# Altium footprint library hhc_ad4_YZB.PcbLib: 55 footprints (part 3 of 4)
Each footprint in its own frame and in the unit in brackets; x right, y up, seen from the top. Pads: shape width x height; smd on the part's side, far side on the other; paste and mask are expansions set on the pad; w line width, h text height; cw(c..) or ccw(c..) is an arc to the next point about the centre after c.
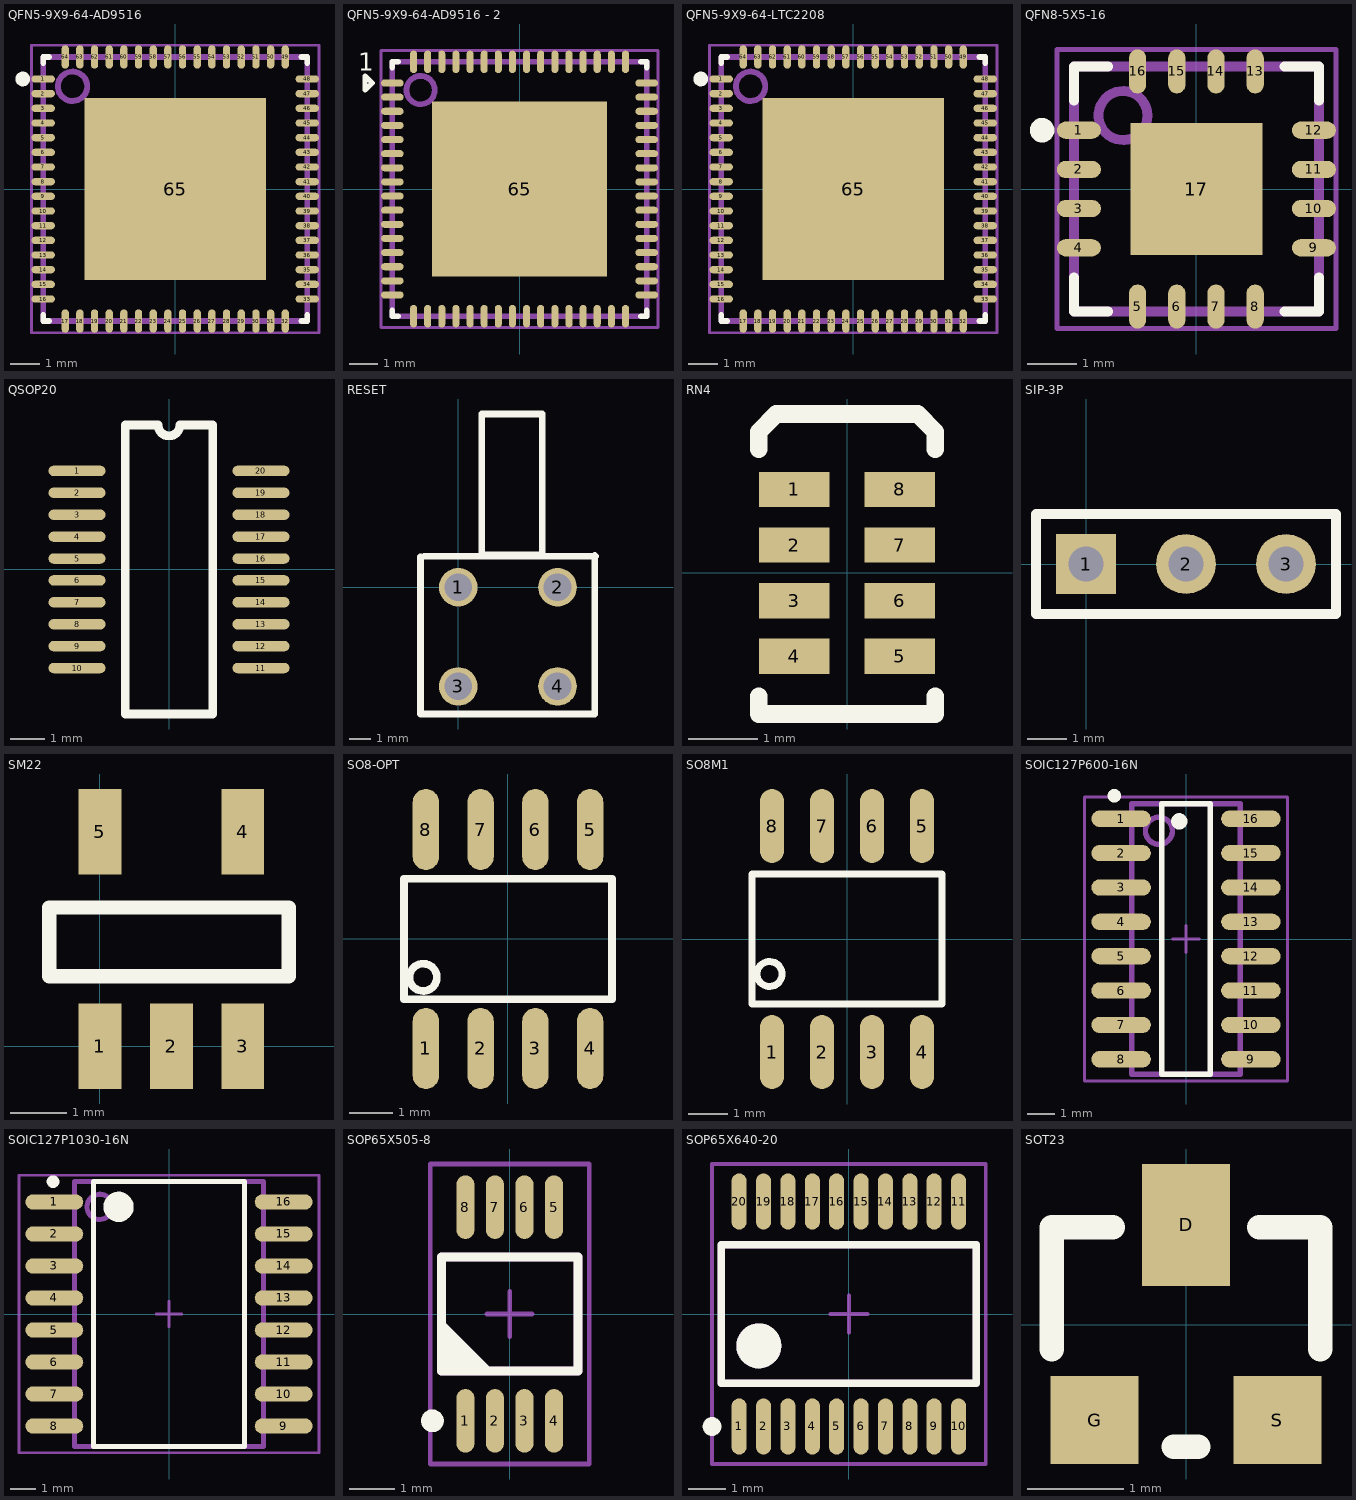
[diagram p2: the footprints below, top view; thin cyan lines are the x and y axes]

## QFN5-9X9-64-AD9516 [mm]
pads (65):
  oval 0.8x0.25 smd: 1(-4.5,3.75) 2(-4.5,3.25) 3(-4.5,2.75) 4(-4.5,2.25) 5(-4.5,1.75) 6(-4.5,1.25) 7(-4.5,0.75) 8(-4.5,0.25) 9(-4.5,-0.25) 10(-4.5,-0.75) 11(-4.5,-1.25) 12(-4.5,-1.75) 13(-4.5,-2.25) 14(-4.5,-2.75) 15(-4.5,-3.25) 16(-4.5,-3.75) 33(4.5,-3.75) 34(4.5,-3.25) 35(4.5,-2.75) 36(4.5,-2.25) 37(4.5,-1.75) 38(4.5,-1.25) 39(4.5,-0.75) 40(4.5,-0.25) 41(4.5,0.25) 42(4.5,0.75) 43(4.5,1.25) 44(4.5,1.75) 45(4.5,2.25) 46(4.5,2.75) 47(4.5,3.25) 48(4.5,3.75)
  oval 0.25x0.8 smd: 17(-3.75,-4.5) 18(-3.25,-4.5) 19(-2.75,-4.5) 20(-2.25,-4.5) 21(-1.75,-4.5) 22(-1.25,-4.5) 23(-0.75,-4.5) 24(-0.25,-4.5) 25(0.25,-4.5) 26(0.75,-4.5) 27(1.25,-4.5) 28(1.75,-4.5) 29(2.25,-4.5) 30(2.75,-4.5) 31(3.25,-4.5) 32(3.75,-4.5) 49(3.75,4.5) 50(3.25,4.5) 51(2.75,4.5) 52(2.25,4.5) 53(1.75,4.5) 54(1.25,4.5) 55(0.75,4.5) 56(0.25,4.5) 57(-0.25,4.5) 58(-0.75,4.5) 59(-1.25,4.5) 60(-1.75,4.5) 61(-2.25,4.5) 62(-2.75,4.5) 63(-3.25,4.5) 64(-3.75,4.5)
  rect 6.2x6.2 smd: 65(0,0)
Top Overlay:
  circle w0.25: c-5.2,3.75 r0.125
  lines w0.2: -4.5,-4.3 -4.5,-4.5 -4.3,-4.5 ; -4.5,4.3 -4.5,4.5 -4.3,4.5 ; 4.3,-4.5 4.5,-4.5 4.5,-4.3 ; 4.3,4.5 4.5,4.5 4.5,4.3
Top Paste:
  region: -0.106,0.068 -0.12,0.036 -3.7,1.117 -3.7,2.407
  region: -0.035,0.12 -0.068,0.104 -2.428,3.7 -1.139,3.7
  region: 0.036,0.12 0.069,0.104 2.429,3.7 1.067,3.7
  region: 0.106,0.067 0.12,0.035 3.7,1.117 3.7,2.336
  region: 0.106,-0.068 0.12,-0.036 3.7,-1.117 3.7,-2.407
  region: 0.035,-0.12 0.068,-0.104 2.514,-3.7 1.054,-3.7
  region: -0.036,-0.12 -0.069,-0.104 -2.453,-3.7 -1.117,-3.7
  region: -0.106,-0.067 -0.12,-0.035 -3.7,-1.117 -3.7,-2.336
Mechanical 1:
  circle w0.2: c-3.5,3.5 r0.5
  lines w0.2: -4.5,-4.5 4.5,-4.5 4.5,4.5 -4.5,4.5 -4.5,-4.5
  text "U67" at -1.224,-0.5 h1
Mechanical 8:
  lines w0.1: -0.5,0 0.5,0 ; 0,-0.5 0,0.5 ; -4.9,-4.9 4.9,-4.9 4.9,4.9 -4.9,4.9 -4.9,-4.9

## QFN5-9X9-64-AD9516 - 2 [mm]
pads (65):
  oval 0.8x0.25 smd: 1(-4.5,3.75) 2(-4.5,3.25) 3(-4.5,2.75) 4(-4.5,2.25) 5(-4.5,1.75) 6(-4.5,1.25) 7(-4.5,0.75) 8(-4.5,0.25) 9(-4.5,-0.25) 10(-4.5,-0.75) 11(-4.5,-1.25) 12(-4.5,-1.75) 13(-4.5,-2.25) 14(-4.5,-2.75) 15(-4.5,-3.25) 16(-4.5,-3.75) 33(4.5,-3.75) 34(4.5,-3.25) 35(4.5,-2.75) 36(4.5,-2.25) 37(4.5,-1.75) 38(4.5,-1.25) 39(4.5,-0.75) 40(4.5,-0.25) 41(4.5,0.25) 42(4.5,0.75) 43(4.5,1.25) 44(4.5,1.75) 45(4.5,2.25) 46(4.5,2.75) 47(4.5,3.25) 48(4.5,3.75)
  oval 0.25x0.8 smd: 17(-3.75,-4.5) 18(-3.25,-4.5) 19(-2.75,-4.5) 20(-2.25,-4.5) 21(-1.75,-4.5) 22(-1.25,-4.5) 23(-0.75,-4.5) 24(-0.25,-4.5) 25(0.25,-4.5) 26(0.75,-4.5) 27(1.25,-4.5) 28(1.75,-4.5) 29(2.25,-4.5) 30(2.75,-4.5) 31(3.25,-4.5) 32(3.75,-4.5) 49(3.75,4.5) 50(3.25,4.5) 51(2.75,4.5) 52(2.25,4.5) 53(1.75,4.5) 54(1.25,4.5) 55(0.75,4.5) 56(0.25,4.5) 57(-0.25,4.5) 58(-0.75,4.5) 59(-1.25,4.5) 60(-1.75,4.5) 61(-2.25,4.5) 62(-2.75,4.5) 63(-3.25,4.5) 64(-3.75,4.5)
  rect 6.2x6.2 smd: 65(0,0)
Top Overlay:
  lines w0.178: -5.461,3.496 -5.207,3.75 -5.461,4.004 -5.461,3.496
  lines w0.2: -4.5,-4.3 -4.5,-4.5 -4.3,-4.5 ; -4.5,4.3 -4.5,4.5 -4.3,4.5 ; 4.3,-4.5 4.5,-4.5 4.5,-4.3 ; 4.3,4.5 4.5,4.5 4.5,4.3
  text "1" at -5.715,4.191 h0.64
Top Paste:
  region: -0.106,-0.067 -0.12,-0.035 -3.7,-1.117 -3.7,-2.336
  region: -0.036,-0.12 -0.069,-0.104 -2.453,-3.7 -1.117,-3.7
  region: 0.035,-0.12 0.068,-0.104 2.514,-3.7 1.054,-3.7
  region: 0.106,-0.068 0.12,-0.036 3.7,-1.117 3.7,-2.407
  region: 0.106,0.067 0.12,0.035 3.7,1.117 3.7,2.336
  region: 0.036,0.12 0.069,0.104 2.429,3.7 1.067,3.7
  region: -0.035,0.12 -0.068,0.104 -2.428,3.7 -1.139,3.7
  region: -0.106,0.068 -0.12,0.036 -3.7,1.117 -3.7,2.407
Mechanical 1:
  circle w0.2: c-3.5,3.5 r0.5
  lines w0.2: -4.5,-4.5 -4.5,4.5 4.5,4.5 4.5,-4.5 -4.5,-4.5
  text "U67" at -1.224,-0.5 h1
Mechanical 8:
  lines w0.1: -0.5,0 0.5,0 ; 0,-0.5 0,0.5 ; -4.9,-4.9 -4.9,4.9 4.9,4.9 4.9,-4.9 -4.9,-4.9

## QFN5-9X9-64-LTC2208 [mm]
pads (65):
  oval 0.8x0.25 smd: 1(-4.5,3.75) 2(-4.5,3.25) 3(-4.5,2.75) 4(-4.5,2.25) 5(-4.5,1.75) 6(-4.5,1.25) 7(-4.5,0.75) 8(-4.5,0.25) 9(-4.5,-0.25) 10(-4.5,-0.75) 11(-4.5,-1.25) 12(-4.5,-1.75) 13(-4.5,-2.25) 14(-4.5,-2.75) 15(-4.5,-3.25) 16(-4.5,-3.75) 33(4.5,-3.75) 34(4.5,-3.25) 35(4.5,-2.75) 36(4.5,-2.25) 37(4.5,-1.75) 38(4.5,-1.25) 39(4.5,-0.75) 40(4.5,-0.25) 41(4.5,0.25) 42(4.5,0.75) 43(4.5,1.25) 44(4.5,1.75) 45(4.5,2.25) 46(4.5,2.75) 47(4.5,3.25) 48(4.5,3.75)
  oval 0.25x0.8 smd: 17(-3.75,-4.5) 18(-3.25,-4.5) 19(-2.75,-4.5) 20(-2.25,-4.5) 21(-1.75,-4.5) 22(-1.25,-4.5) 23(-0.75,-4.5) 24(-0.25,-4.5) 25(0.25,-4.5) 26(0.75,-4.5) 27(1.25,-4.5) 28(1.75,-4.5) 29(2.25,-4.5) 30(2.75,-4.5) 31(3.25,-4.5) 32(3.75,-4.5) 49(3.75,4.5) 50(3.25,4.5) 51(2.75,4.5) 52(2.25,4.5) 53(1.75,4.5) 54(1.25,4.5) 55(0.75,4.5) 56(0.25,4.5) 57(-0.25,4.5) 58(-0.75,4.5) 59(-1.25,4.5) 60(-1.75,4.5) 61(-2.25,4.5) 62(-2.75,4.5) 63(-3.25,4.5) 64(-3.75,4.5)
  rect 6.2x6.2 smd: 65(0,0)
Top Overlay:
  circle w0.25: c-5.2,3.75 r0.125
  lines w0.2: -4.5,-4.3 -4.5,-4.5 -4.3,-4.5 ; -4.5,4.3 -4.5,4.5 -4.3,4.5 ; 4.3,-4.5 4.5,-4.5 4.5,-4.3 ; 4.3,4.5 4.5,4.5 4.5,4.3
Top Paste:
  region: -0.106,0.068 -0.12,0.036 -3.7,1.117 -3.7,2.407
  region: -0.035,0.12 -0.068,0.104 -2.428,3.7 -1.139,3.7
  region: 0.036,0.12 0.069,0.104 2.429,3.7 1.067,3.7
  region: 0.106,0.067 0.12,0.035 3.7,1.117 3.7,2.336
  region: 0.106,-0.068 0.12,-0.036 3.7,-1.117 3.7,-2.407
  region: 0.035,-0.12 0.068,-0.104 2.514,-3.7 1.054,-3.7
  region: -0.036,-0.12 -0.069,-0.104 -2.453,-3.7 -1.117,-3.7
  region: -0.106,-0.067 -0.12,-0.035 -3.7,-1.117 -3.7,-2.336
Mechanical 1:
  circle w0.2: c-3.5,3.5 r0.5
  lines w0.2: -4.5,-4.5 4.5,-4.5 4.5,4.5 -4.5,4.5 -4.5,-4.5
  text "U20" at -1.25,-0.5 h1
Mechanical 8:
  lines w0.1: -0.5,0 0.5,0 ; 0,-0.5 0,0.5 ; -4.9,-4.9 4.9,-4.9 4.9,4.9 -4.9,4.9 -4.9,-4.9

## QFN8-5X5-16 [mm]
pads (17):
  oval 0.9x0.35 smd paste-0.1 mask-0.1: 1(-2.4,1.2) 2(-2.4,0.4) 3(-2.4,-0.4) 4(-2.4,-1.2) 9(2.4,-1.2) 10(2.4,-0.4) 11(2.4,0.4) 12(2.4,1.2)
  oval 0.35x0.9 smd paste-0.1 mask-0.1: 5(-1.2,-2.4) 6(-0.4,-2.4) 7(0.4,-2.4) 8(1.2,-2.4) 13(1.2,2.4) 14(0.4,2.4) 15(-0.4,2.4) 16(-1.2,2.4)
  rect 2.7x2.7 smd: 17(0,0)
Top Overlay:
  circle w0.25: c-3.15,1.2 r0.125
  lines w0.2: -2.5,-1.8 -2.5,-2.5 -1.8,-2.5 ; -2.5,1.8 -2.5,2.5 -1.8,2.5 ; 1.8,-2.5 2.5,-2.5 2.5,-1.8 ; 1.8,2.5 2.5,2.5 2.5,1.8
Top Paste:
  region: 0.068,0.106 0.036,0.12 0.347,1.15 0.748,1.15
  region: 0.12,0.035 0.104,0.068 1.15,0.78 1.15,0.328
  region: 0.12,-0.036 0.104,-0.069 1.15,-0.762 1.15,-0.347
  region: 0.067,-0.106 0.035,-0.12 0.346,-1.15 0.726,-1.15
  region: -0.068,-0.106 -0.036,-0.12 -0.347,-1.15 -0.748,-1.15
  region: -0.12,-0.035 -0.104,-0.068 -1.15,-0.754 -1.15,-0.353
  region: -0.12,0.036 -0.104,0.069 -1.15,0.755 -1.15,0.333
  region: -0.067,0.106 -0.035,0.12 -0.346,1.15 -0.726,1.15
Mechanical 1:
  circle w0.2: c-1.5,1.5 r0.5
  lines w0.2: -2.5,-2.5 2.5,-2.5 2.5,2.5 -2.5,2.5 -2.5,-2.5
  text "U101" at -1.402,-1.1 h1
Mechanical 8:
  lines w0.1: -0.5,0 0.5,0 ; 0,-0.5 0,0.5 ; -2.85,-2.85 2.85,-2.85 2.85,2.85 -2.85,2.85 -2.85,-2.85

## QSOP20 [mil]
pads (20):
  oval 65x12 smd: 1(-105,112.5) 2(-105,87.5) 3(-105,62.5) 4(-105,37.5) 5(-105,12.5) 6(-105,-12.5) 7(-105,-37.5) 8(-105,-62.5) 9(-105,-87.5) 10(-105,-112.5) 11(105,-112.5) 12(105,-87.5) 13(105,-62.5) 14(105,-37.5) 15(105,-12.5) 16(105,12.5) 17(105,37.5) 18(105,62.5) 19(105,87.5) 20(105,112.5)
Top Overlay:
  lines w10: -50,-165 50,-165 50,165 12.5,165 cw(c0,165) -12.5,165 -50,165 -50,-165

## RESET [mil]
pads (4):
  round 70 / inner round 60 / far side round 60 hole 50: 1(0,0) 2(180,0)
  round 70 hole 50: 3(0,-180) 4(180,-180)
Top Overlay:
  lines w12: -68.68,55.49 -68.68,-230 247.8,-230 247.8,57.69 ; -62.09,56.59 248.9,56.59 ; 42.31,58.79 42.31,314.58 152.2,314.58 152.2,58.79 46.7,58.79

## RN4 [mil]
pads (8):
  rect 40x20 smd: 1(-30,47.25) 2(-30,15.75) 3(-30,-15.75) 4(-30,-47.25) 5(30,-47.25) 6(30,-15.75) 7(30,15.75) 8(30,47.25)
Top Overlay:
  lines w10: -50,-70 -50,-80 50,-80 50,-70 ; -50,70 -50,80 -40,90 40,90 50,80 50,70

## SIP-3P [mil]
pads (3):
  rect 60x60 / inner round 60 / far side rect 60x60 hole 35: 1(0,0)
  round 60 hole 35: 2(100,0) 3(200,0)
Top Overlay:
  lines w10: -50,-50 -50,50 250,50 250,-50 -50,-50

## SM22 [mil]
pads (5):
  rect 30x60 smd: 1(0,0) 2(50,0) 3(100,0) 4(100,150) 5(0,150)
Top Overlay:
  lines w10: -35.38,48.92 -35.38,97 132.13,97 132.13,48.92 -35.38,48.92

## SO8-OPT [mil]
pads (8):
  oval 24x74 smd: 1(-75,-100) 2(-25,-100) 3(25,-100) 4(75,-100) 5(75,100) 6(25,100) 7(-25,100) 8(-75,100)
Top Overlay:
  circle w7: c-77.5,-35 r12.5
  lines w7: -95,-55 -95,55 95,55 95,-55 -95,-55

## SO8M1 [mil]
pads (8):
  oval 24x74 smd: 1(-75,-113) 2(-25,-113) 3(25,-113) 4(75,-113) 5(75,113) 6(25,113) 7(-25,113) 8(-75,113)
Top Overlay:
  circle w7: c-77.5,-35 r12.5
  lines w7: -95,-65 -95,65 95,65 95,-65 -95,-65

## SOIC127P600-16N [mm]
pads (16):
  oval 2.2x0.6 smd: 1(-2.4,4.445) 2(-2.4,3.175) 3(-2.4,1.905) 4(-2.4,0.635) 5(-2.4,-0.635) 6(-2.4,-1.905) 7(-2.4,-3.175) 8(-2.4,-4.445) 9(2.4,-4.445) 10(2.4,-3.175) 11(2.4,-1.905) 12(2.4,-0.635) 13(2.4,0.635) 14(2.4,1.905) 15(2.4,3.175) 16(2.4,4.445)
Top Overlay:
  circle w0.3: c-0.25,4.35 r0.15
  circle w0.25: c-2.65,5.295 r0.125
  lines w0.2: -0.9,-5 0.9,-5 0.9,5 -0.9,5 -0.9,-5
Mechanical 1:
  circle w0.2: c-1,4 r0.5
  lines w0.2: -2,-5 2,-5 2,5 -2,5 -2,-5
  text "U28" at 0.5,-1.45 h1
Mechanical 8:
  lines w0.1: -0.5,0 0.5,0 ; 0,-0.5 0,0.5 ; -3.75,-5.25 3.75,-5.25 3.75,5.25 -3.75,5.25 -3.75,-5.25
Mechanical 9:
  lines w0.001: -2,-5 2,-5 2,5 -2,5 -2,-5

## SOIC127P1030-16N [mm]
pads (16):
  oval 2.3x0.6 smd: 1(-4.55,4.445) 2(-4.55,3.175) 3(-4.55,1.905) 4(-4.55,0.635) 5(-4.55,-0.635) 6(-4.55,-1.905) 7(-4.55,-3.175) 8(-4.55,-4.445) 9(4.55,-4.445) 10(4.55,-3.175) 11(4.55,-1.905) 12(4.55,-0.635) 13(4.55,0.635) 14(4.55,1.905) 15(4.55,3.175) 16(4.55,4.445)
Top Overlay:
  circle w0.6: c-2,4.25 r0.3
  circle w0.25: c-4.6,5.25 r0.125
  lines w0.2: -3,-5.25 3,-5.25 3,5.25 -3,5.25 -3,-5.25
Mechanical 1:
  circle w0.2: c-2.75,4.25 r0.5
  lines w0.2: -3.75,-5.25 3.75,-5.25 3.75,5.25 -3.75,5.25 -3.75,-5.25
  text "U134" at -1.64,-0.5 h1
Mechanical 8:
  lines w0.1: -0.5,0 0.5,0 ; 0,-0.5 0,0.5 ; -5.95,-5.5 5.95,-5.5 5.95,5.5 -5.95,5.5 -5.95,-5.5
Mechanical 9:
  lines w0.001: -3.75,-5.25 3.75,-5.25 3.75,5.25 -3.75,5.25 -3.75,-5.25

## SOP65X505-8 [mm]
pads (8):
  oval 0.4x1.4 smd: 1(-0.975,-2.35) 2(-0.325,-2.35) 3(0.325,-2.35) 4(0.975,-2.35) 5(0.975,2.35) 6(0.325,2.35) 7(-0.325,2.35) 8(-0.975,2.35)
Top Overlay:
  circle w0.25: c-1.7,-2.35 r0.125
  lines w0.2: -1.5,-1 -1.25,-1.25 ; -1.5,-0.75 -1,-1.25 ; -1.5,-0.5 -0.75,-1.25 ; -1.5,-0.25 -0.5,-1.25 ; -1.5,-1.25 1.5,-1.25 1.5,1.25 -1.5,1.25 -1.5,-1.25
Mechanical 1:
  lines w0.2: -1.5,-1 -1.25,-1.25 ; -1.5,-0.75 -1,-1.25 ; -1.5,-0.5 -0.75,-1.25 ; -1.5,-0.25 -0.5,-1.25 ; -1.5,-1.25 1.5,-1.25 1.5,1.25 -1.5,1.25 -1.5,-1.25
  text "U45" at -0.912,0.05 h0.75
Mechanical 8:
  lines w0.1: -0.5,0 0.5,0 ; 0,-0.5 0,0.5 ; -1.75,-3.3 -1.75,3.3 1.75,3.3 1.75,-3.3 -1.75,-3.3

## SOP65X640-20 [mm]
pads (20):
  oval 0.4x1.5 smd: 1(-2.925,-3) 2(-2.275,-3) 3(-1.625,-3) 4(-0.975,-3) 5(-0.325,-3) 6(0.325,-3) 7(0.975,-3) 8(1.625,-3) 9(2.275,-3) 10(2.925,-3) 11(2.925,3) 12(2.275,3) 13(1.625,3) 14(0.975,3) 15(0.325,3) 16(-0.325,3) 17(-0.975,3) 18(-1.625,3) 19(-2.275,3) 20(-2.925,3)
Top Overlay:
  circle w0.25: c-3.65,-3 r0.125
  circle w0.6: c-2.4,-0.85 r0.3
  lines w0.2: -3.4,-1.85 3.4,-1.85 3.4,1.85 -3.4,1.85 -3.4,-1.85
Mechanical 1:
  circle w0.2: c-2.4,-0.85 r0.5
  lines w0.2: -3.4,-1.85 3.4,-1.85 3.4,1.85 -3.4,1.85 -3.4,-1.85
  text "U11" at -0.257,-0.5 h1
Mechanical 8:
  lines w0.1: -0.5,0 0.5,0 ; 0,-0.5 0,0.5 ; -3.65,-4 -3.65,4 3.65,4 3.65,-4 -3.65,-4

## SOT23 [mil]
pads (3):
  rect 36x50 smd: D(0,41)
  rect 36x36 smd: G(-37.5,-39) S(37.5,-39)
Top Overlay:
  lines w10: -55,-10 -55,40 -30,40 ; -5,-50 5,-50 ; 30,40 55,40 55,-10